# Altium schematic symbol library 7MBR100U4B120.SchLib: 1 symbol
Pins are listed as number, name and electrical type; pins without a type are passive.

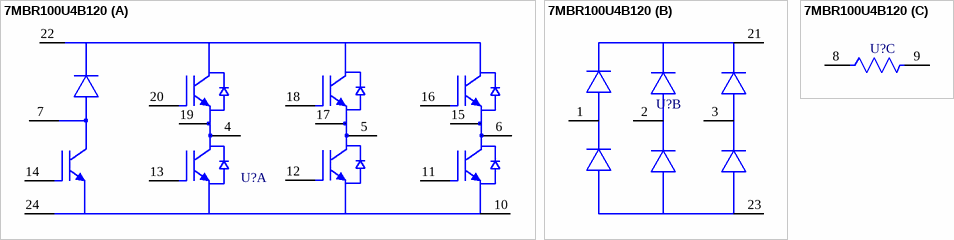
[diagram p0: symbol 7MBR100U4B120]

## 7MBR100U4B120
designator U?  (value not drawn)
footprint 7MBR100U4B120
part A pins: 4 U, 5 V, 6 W, 7 B, 10 En, 11 Gz, 12 Gy, 13 Gx, 14 Gb, 15 Ew, 16 Gw, 17 Ev, 18 Gv, 19 Eu, 20 Gu, 22 P1, 24 N1
part B pins: 1 R, 2 S, 3 T, 21 P, 23 N
part C pins: 8, 9